# EAGLE library part SI-50154 (library sapphire)
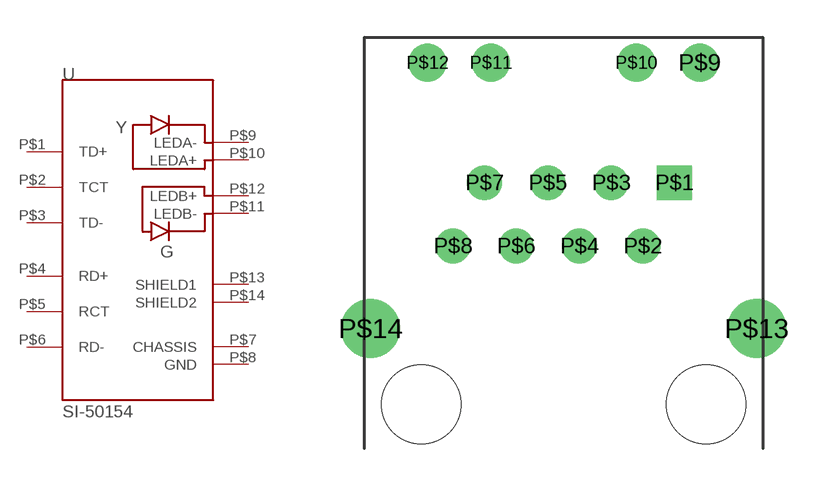
[diagram p14: symbol with the pads of SI-50154; footprint SI-50154]

Designator prefix -

## SI-50154  [SI-50154]
P$1  TD+
P$2  TCT
P$3  TD-
P$4  RD+
P$5  RCT
P$6  RD-
P$7  CHASSIS
P$8  GND
P$9  LEDA-
P$10  LEDA+
P$11  LEDB-
P$12  LEDB+
P$13  SHIELD1
P$14  SHIELD2

## Footprint SI-50154 (pad centres in mm)
drill 0.889 square: P$1 10.16,8.89
drill 0.889: P$2 8.89,6.35; P$3 7.62,8.89; P$4 6.35,6.35; P$5 5.08,8.89; P$6 3.81,6.35; P$7 2.54,8.89; P$8 1.27,6.35
drill 1.016: P$9 11.176,13.716; P$10 8.636,13.716; P$11 2.794,13.716; P$12 0.254,13.716
drill 1.575: P$13 13.462,3.048; P$14 -2.032,3.048
hole 3.175 at 0,0
hole 3.175 at 11.43,0